# EAGLE library part XL-PBI (library TF_Atari)
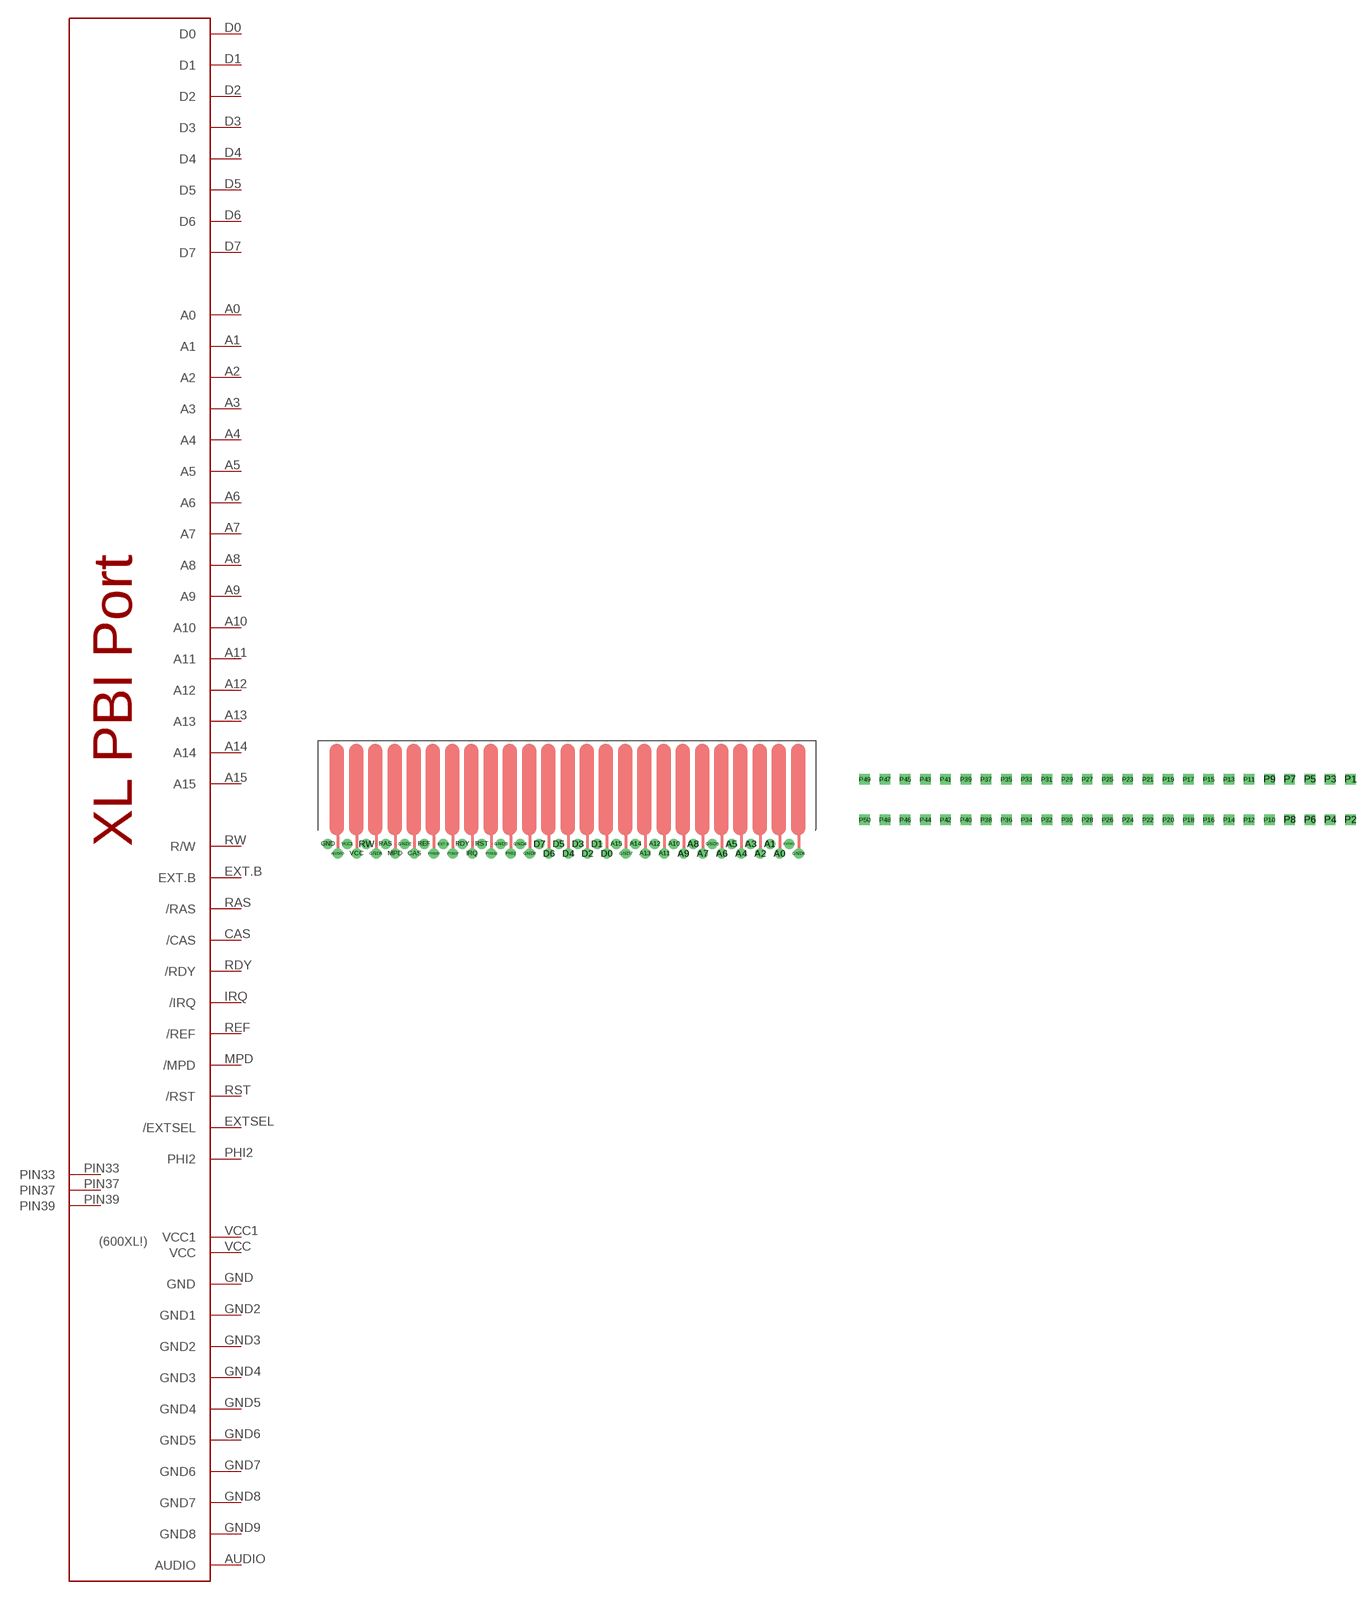
[diagram p7: symbol with the pads of XL-PBI; footprints XL-PBI, XL-PBI_90]

Designator prefix -

## XL-PBI  [XL-PBI]
A0  A0
A1  A1
A2  A2
A3  A3
A4  A4
A5  A5
A6  A6
A7  A7
A8  A8
A9  A9
A10  A10
A11  A11
A12  A12
A13  A13
A14  A14
A15  A15
AUDIO  AUDIO
CAS  /CAS
D0  D0
D1  D1
D2  D2
D3  D3
D4  D4
D5  D5
D6  D6
D7  D7
EXT.B  EXT.B  sup
EXTSEL  /EXTSEL
GND  GND
GND2  GND1
GND3  GND2
GND4  GND3
GND5  GND4
GND6  GND5
GND7  GND6
GND8  GND7
GND9  GND8
IRQ  /IRQ
MPD  /MPD
PHI2  PHI2
PIN33  PIN33  nc
PIN37  PIN37  nc
PIN39  PIN39  nc
RAS  /RAS
RDY  /RDY
REF  /REF
RST  /RST
RW  R/W
VCC  VCC
VCC1  VCC1

## XL-PBI90  [XL-PBI_90]
P1  GND
P2  /EXTSEL
P3  A0
P4  A1
P5  A2
P6  A3
P7  A4
P8  A5
P9  A6
P10  GND1
P11  A7
P12  A8
P13  A9
P14  A10
P15  A11
P16  A12
P17  A13
P18  A14
P19  GND2
P20  A15
P21  D0
P22  D1
P23  D2
P24  D3
P25  D4
P26  D5
P27  D6
P28  D7
P29  GND3
P30  GND4
P31  PHI2
P32  GND5
P33  PIN33  nc
P34  /RST
P35  /IRQ
P36  /RDY
P37  PIN37  nc
P38  EXT.B  sup
P39  PIN39  nc
P40  /REF
P41  /CAS
P42  GND6
P43  /MPD
P44  /RAS
P45  GND7
P46  R/W
P47  VCC
P48  VCC1
P49  AUDIO
P50  GND8

## Footprint XL-PBI (pad centres in mm)
drill 0.813: A0 31.115,-8.255; A1 29.845,-6.985; A2 28.575,-8.255; A3 27.305,-6.985; A4 26.035,-8.255; A5 24.765,-6.985; A6 23.495,-8.255; A7 20.955,-8.255; A8 19.685,-6.985; A9 18.415,-8.255; A10 17.145,-6.985; A11 15.875,-8.255; A12 14.605,-6.985; A13 13.335,-8.255; A14 12.065,-6.985; A15 9.525,-6.985; AUDIO -27.305,-8.255; CAS -17.145,-8.255; D0 8.255,-8.255; D1 6.985,-6.985; D2 5.715,-8.255; D3 4.445,-6.985; D4 3.175,-8.255; D5 1.905,-6.985; D6 0.635,-8.255; D7 -0.635,-6.985; EXT.B -13.335,-6.985; EXTSEL 32.385,-6.985; GND -28.575,-6.985; GND2 -18.415,-6.985; GND3 -5.715,-6.985; GND4 -3.175,-6.985; GND5 22.225,-6.985; GND6 33.655,-8.255; GND7 10.795,-8.255; GND8 -1.905,-8.255; GND9 -22.225,-8.255; IRQ -9.525,-8.255; MPD -19.685,-8.255; PHI2 -4.445,-8.255; PIN33 -6.985,-8.255; PIN37 -12.065,-8.255; PIN39 -14.605,-8.255; RAS -20.955,-6.985; RDY -10.795,-6.985; REF -15.875,-6.985; RST -8.255,-6.985; RW -23.495,-6.985; VCC -24.765,-8.255; VCC1 -26.035,-6.985

## Footprint XL-PBI_90 (pad centres in mm)
drill 0.8 square: P1 31.75,2.54; P2 31.75,-2.54; P3 29.21,2.54; P4 29.21,-2.54; P5 26.67,2.54; P6 26.67,-2.54; P7 24.13,2.54; P8 24.13,-2.54; P9 21.59,2.54; P10 21.59,-2.54; P11 19.05,2.54; P12 19.05,-2.54; P13 16.51,2.54; P14 16.51,-2.54; P15 13.97,2.54; P16 13.97,-2.54; P17 11.43,2.54; P18 11.43,-2.54; P19 8.89,2.54; P20 8.89,-2.54; P21 6.35,2.54; P22 6.35,-2.54; P23 3.81,2.54; P24 3.81,-2.54; P25 1.27,2.54; P26 1.27,-2.54; P27 -1.27,2.54; P28 -1.27,-2.54; P29 -3.81,2.54; P30 -3.81,-2.54; P31 -6.35,2.54; P32 -6.35,-2.54; P33 -8.89,2.54; P34 -8.89,-2.54; P35 -11.43,2.54; P36 -11.43,-2.54; P37 -13.97,2.54; P38 -13.97,-2.54; P39 -16.51,2.54; P40 -16.51,-2.54; P41 -19.05,2.54; P42 -19.05,-2.54; P43 -21.59,2.54; P44 -21.59,-2.54; P45 -24.13,2.54; P46 -24.13,-2.54; P47 -26.67,2.54; P48 -26.67,-2.54; P49 -29.21,2.54; P50 -29.21,-2.54